# EAGLE library part CONTROL_PORT (library 326298_rev_a)
SUB-D
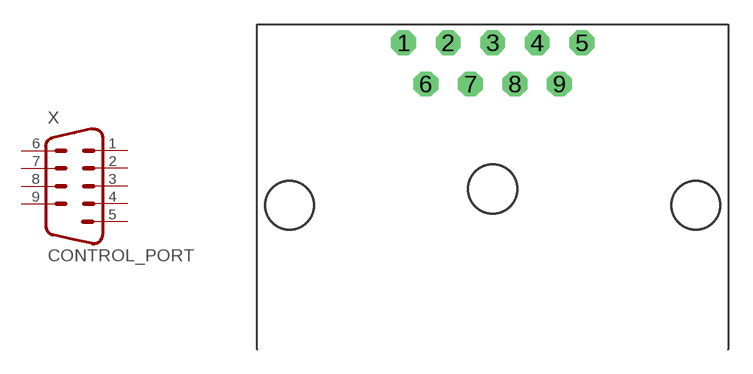
[diagram p24: symbol with the pads of CONTROL_PORT; footprint CONTROL_PORT]

Designator prefix X

## CONTROL_PORT (OC_FARNELL: unknown; OC_NEWARK: unknown)  [CONTROL_PORT]
1  1  pas
2  2  pas
3  3  pas
4  4  pas
5  5  pas
6  6  pas
7  7  pas
8  8  pas
9  9  pas

## Footprint CONTROL_PORT (pad centres in mm)
SUB-D
drill 1.016 octagon: 1 -5.486,1.27; 2 -2.743,1.27; 3 0,1.27; 4 2.743,1.27; 5 5.486,1.27; 6 -4.115,-1.27; 7 -1.372,-1.27; 8 1.372,-1.27; 9 4.115,-1.27